# Altium footprint library DIN-xxxxx-xxxxx-64F.PcbLib: 1 footprints
Each footprint in its own frame and in the unit in brackets; x right, y up, seen from the top. Pads: shape width x height; smd on the part's side, far side on the other; paste and mask are expansions set on the pad; w line width, h text height; cw(c..) or ccw(c..) is an arc to the next point about the centre after c.
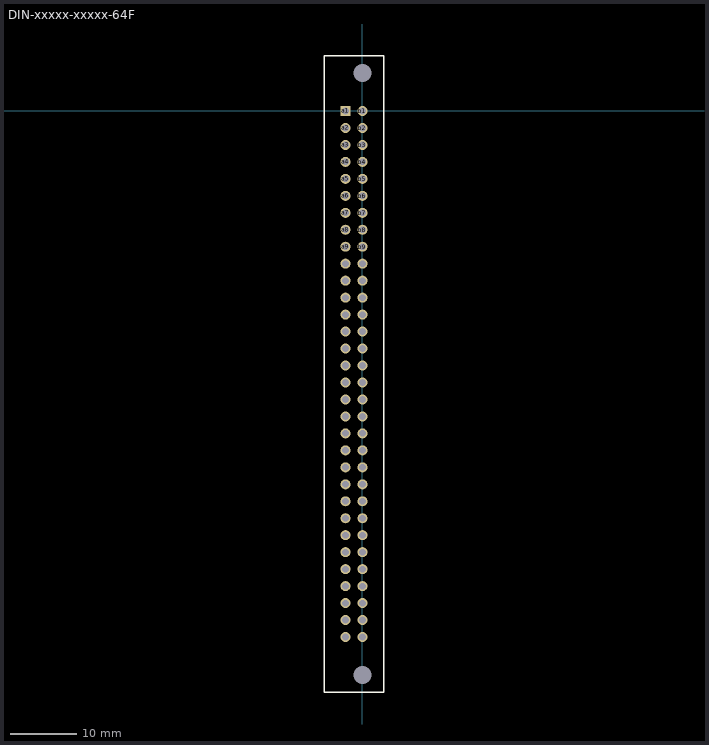
[diagram p0: the footprint, top view; thin cyan lines are the x and y axes]

## DIN-xxxxx-xxxxx-64F [mm]
pads (66):
  round 0 hole 2.7: 0(0,5.715) 1(0,-84.455)
  rect 1.5x1.5 hole 1: a1(-2.54,0)
  round 1.5 hole 1: a2(-2.54,-2.54) a3(-2.54,-5.08) a4(-2.54,-7.62) a5(-2.54,-10.16) a6(-2.54,-12.7) a7(-2.54,-15.24) a8(-2.54,-17.78) a9(-2.54,-20.32) a10(-2.54,-22.86) a11(-2.54,-25.4) a12(-2.54,-27.94) a13(-2.54,-30.48) a14(-2.54,-33.02) a15(-2.54,-35.56) a16(-2.54,-38.1) a17(-2.54,-40.64) a18(-2.54,-43.18) a19(-2.54,-45.72) a20(-2.54,-48.26) a21(-2.54,-50.8) a22(-2.54,-53.34) a23(-2.54,-55.88) a24(-2.54,-58.42) a25(-2.54,-60.96) a26(-2.54,-63.5) a27(-2.54,-66.04) a28(-2.54,-68.58) a29(-2.54,-71.12) a30(-2.54,-73.66) a31(-2.54,-76.2) a32(-2.54,-78.74) b1(0,0) b2(0,-2.54) b3(0,-5.08) b4(0,-7.62) b5(0,-10.16) b6(0,-12.7) b7(0,-15.24) b8(0,-17.78) b9(0,-20.32) b10(0,-22.86) b11(0,-25.4) b12(0,-27.94) b13(0,-30.48) b14(0,-33.02) b15(0,-35.56) b16(0,-38.1) b17(0,-40.64) b18(0,-43.18) b19(0,-45.72) b20(0,-48.26) b21(0,-50.8) b22(0,-53.34) b23(0,-55.88) b24(0,-58.42) b25(0,-60.96) b26(0,-63.5) b27(0,-66.04) b28(0,-68.58) b29(0,-71.12) b30(0,-73.66) b31(0,-76.2) b32(0,-78.74)
Top Overlay:
  lines w0.254: -5.715,-86.995 -5.715,8.255 3.175,8.255 3.175,-86.995 -5.715,-86.995